# Altium schematic symbol library SCH - DRIVER - LED - TI TCA6507PW.SchLib: 1 symbol
Pins are listed as number, name and electrical type; pins without a type are passive.

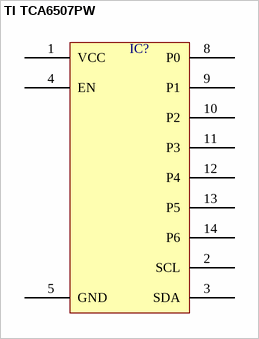
[diagram p0: symbol TI TCA6507PW]

## TI TCA6507PW
designator IC?  (value not drawn)
pins: 1 VCC, 2 SCL, 3 SDA, 4 EN, 5 GND, 8 P0, 9 P1, 10 P2, 11 P3, 12 P4, 13 P5, 14 P6